# Altium footprint library ESP32-S3-WROOM-1U.PcbLib: 1 footprints
Each footprint in its own frame and in the unit in brackets; x right, y up, seen from the top. Pads: shape width x height; smd on the part's side, far side on the other; paste and mask are expansions set on the pad; w line width, h text height; cw(c..) or ccw(c..) is an arc to the next point about the centre after c.
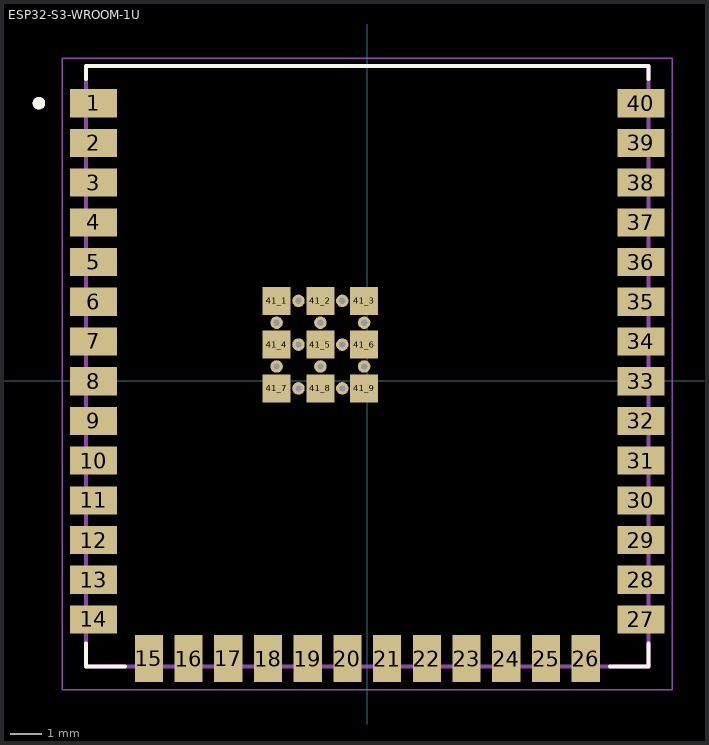
[diagram p0: the footprint, top view; thin cyan lines are the x and y axes]

## ESP32-S3-WROOM-1U [mm]
pads (61):
  rect 1.5x0.9 smd: 1(-8.75,8.88) 2(-8.75,7.61) 3(-8.75,6.34) 4(-8.75,5.07) 5(-8.75,3.8) 6(-8.75,2.53) 7(-8.75,1.26) 8(-8.75,-0.01) 9(-8.75,-1.28) 10(-8.75,-2.55) 11(-8.75,-3.82) 12(-8.75,-5.09) 13(-8.75,-6.36) 14(-8.75,-7.63) 27(8.75,-7.63) 28(8.75,-6.36) 29(8.75,-5.09) 30(8.75,-3.82) 31(8.75,-2.55) 32(8.75,-1.28) 33(8.75,-0.01) 34(8.75,1.26) 35(8.75,2.53) 36(8.75,3.8) 37(8.75,5.07) 38(8.75,6.34) 39(8.75,7.61) 40(8.75,8.88)
  rect 0.9x1.5 smd: 15(-6.985,-8.88) 16(-5.715,-8.88) 17(-4.445,-8.88) 18(-3.175,-8.88) 19(-1.905,-8.88) 20(-0.635,-8.88) 21(0.635,-8.88) 22(1.905,-8.88) 23(3.175,-8.88) 24(4.445,-8.88) 25(5.715,-8.88) 26(6.985,-8.88)
  rect 0.9x0.9 smd: 41_1(-2.9,2.56) 41_2(-1.5,2.56) 41_3(-0.1,2.56) 41_4(-2.9,1.16) 41_5(-1.5,1.16) 41_6(-0.1,1.16) 41_7(-2.9,-0.24) 41_8(-1.5,-0.24) 41_9(-0.1,-0.24)
  round 0.4 hole 0.2 mask+0: 41_10(-2.2,2.56) 41_11(-0.8,2.56) 41_12(-2.9,1.86) 41_13(-1.5,1.86) 41_14(-0.1,1.86) 41_15(-2.2,1.16) 41_16(-0.8,1.16) 41_17(-2.9,0.46) 41_18(-1.5,0.46) 41_19(-0.1,0.46) 41_20(-2.2,-0.24) 41_21(-0.8,-0.24)
Top Overlay:
  circle w0.2: c-10.5,8.88 r0.1
  lines w0.127: -9,-8.4 -9,-9.13 -7.755,-9.13 ; -9,9.65 -9,10.07 9,10.07 9,9.65 ; 7.755,-9.13 9,-9.13 9,-8.4
Mechanical 13:
  circle w0.2: c-10.5,8.88 r0.1
  lines w0.127: -9,-9.13 -9,10.07 9,10.07 9,-9.13 -9,-9.13
Mechanical 15:
  lines w0.05: -9.75,-9.88 9.75,-9.88 9.75,10.32 -9.75,10.32 -9.75,-9.88
3D body "step_temp.STEP": height 3.35, standoff 0, extent -9,-9.13 9,10.07